# Altium footprint library SeniorDesign.PcbLib: 6 footprints
Each footprint in its own frame and in the unit in brackets; x right, y up, seen from the top. Pads: shape width x height; smd on the part's side, far side on the other; paste and mask are expansions set on the pad; w line width, h text height; cw(c..) or ccw(c..) is an arc to the next point about the centre after c.
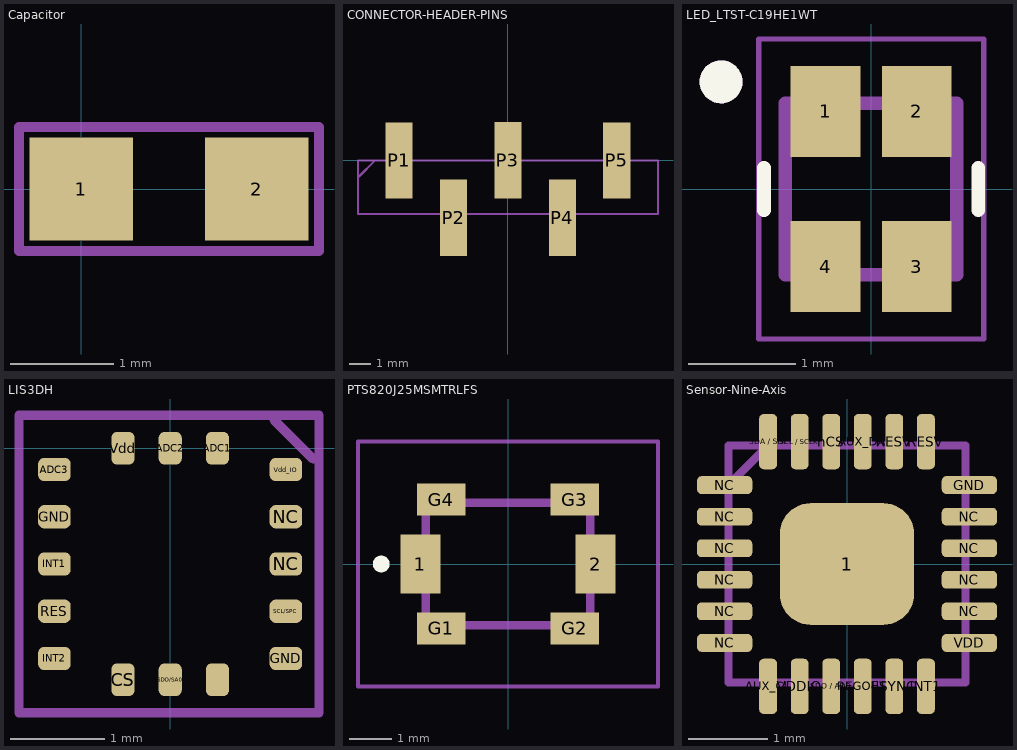
[diagram p0: the footprints below, top view; thin cyan lines are the x and y axes]

## Capacitor [mm]
pads (2):
  rect 1x1 smd: 1(0,0) 2(1.7,0)
Top Assembly:
  lines w0.1: -0.6,-0.6 2.3,-0.6 2.3,0.6 -0.6,0.6 -0.6,-0.6
  text ".Designator" at -0.5,-0.306 h0.5
3D body: height 1, standoff 0, extent -0.618,-0.6 2.3,0.6

## CONNECTOR-HEADER-PINS [mm]
pads (5):
  rect 1.27x3.56 smd: P1(-5.08,0) P2(-2.54,-2.67) P3(0,0) P4(2.54,-2.67) P5(5.08,0)
Top Assembly:
  lines w0.1: -6.95,-0.75 -6.2,0 ; -7,-2.5 7,-2.5 7,0 -7,0 -7,-2.5
  text ".Designator" at -6.5,-1.718 h1.5
3D body: height 5.84, standoff 0, extent -7,-2.5 7,0.1

## LED_LTST-C19HE1WT [mm]
pads (4):
  rect 0.65x0.85 smd: 1(-0.425,0.725) 2(0.425,0.725) 3(0.425,-0.725) 4(-0.425,-0.725)
Top Overlay:
  circle w0.2: c-1.4,1 r0.1
  lines w0.127: -1,-0.2 -1,0.2 ; 1,-0.2 1,0.2
3D Bodies:
  circle w0.2: c-1.4,1 r0.1
  lines w0.127: -0.8,-0.8 0.8,-0.8 0.8,0.8 -0.8,0.8 -0.8,-0.8
Mechanical 15:
  lines w0.05: -1.05,-1.4 1.05,-1.4 1.05,1.4 -1.05,1.4 -1.05,-1.4

## LIS3DH [mm] "Accelerometer"
pads (16):
  rrect50% 0.245x0.345 smd: ADC1(0.5,0) ADC2(0,0) CS(-0.5,-2.45) SDA/SDI/SDO(0.5,-2.45) SDO/SA0(0,-2.45) Vdd(-0.5,0)
  rrect50% 0.345x0.245 smd: ADC3(-1.225,-0.225) GND(-1.225,-0.725) GND(1.225,-2.225) INT1(-1.225,-1.225) INT2(-1.225,-2.225) NC(1.225,-1.225) NC(1.225,-0.725) RES(-1.225,-1.725) SCL/SPC(1.225,-1.725) Vdd_IO(1.225,-0.225)
Top Assembly:
  lines w0.1: 1.1,0.3 1.513,-0.113 ; -1.6,-2.8 1.575,-2.8 1.575,0.35 -1.6,0.35 -1.6,-2.8
  text ".Designator" at -1.25,-1.156 h0.5
3D body: height 1, standoff 0, extent -1.6,-2.75 1.5,0.35

## PTS820J25MSMTRLFS [mm]
pads (6):
  rect 0.95x1.4 smd: 1(-2.075,0) 2(2.075,0)
  rect 1.15x0.75 smd: G1(-1.575,-1.525) G2(1.575,-1.525) G3(1.575,1.525) G4(-1.575,1.525)
Top Overlay:
  lines w0.2: -3,-0.1 cw(c-3,0) -3,0.1 cw(c-3,0) -3,-0.1
3D Bodies:
  lines w0.2: -1.95,-1.45 1.95,-1.45 1.95,1.45 -1.95,1.45 -1.95,-1.45
Mechanical 15:
  lines w0.1: -3.55,-2.9 3.55,-2.9 3.55,2.9 -3.55,2.9 -3.55,-2.9
3D body "PTS820J25MSMTRLFS.stp": height 1.6, standoff 0, extent -2.455,-1.825 2.455,1.825

## Sensor-Nine-Axis [mm]
pads (25):
  rrect50% 1.7x1.54 smd: 1(0,0)
  rrect50% 0.225x0.7 smd: AUX_CL(-1,-1.55) AUX_DA(0.2,1.55) FSYNC(0.6,-1.55) INT1(1,-1.55) nCS(-0.2,1.55) REGOUT(0.2,-1.55) RESV(0.6,1.55) RESV(1,1.55) "SCL / SCLK"(-0.6,1.55) "SDA / SDI"(-1,1.55) "SDO / AD0"(-0.2,-1.55) VDDIO(-0.6,-1.55)
  rrect50% 0.7x0.225 smd: GND(1.55,1) NC(-1.55,-1) NC(-1.55,-0.6) NC(-1.55,-0.2) NC(-1.55,0.2) NC(-1.55,0.6) NC(-1.55,1) NC(1.55,-0.6) NC(1.55,-0.2) NC(1.55,0.2) NC(1.55,0.6) VDD(1.55,-1)
Top Assembly:
  lines w0.1: -1.5,1 -1,1.5 ; -1.5,-1.5 1.5,-1.5 1.5,1.5 -1.5,1.5 -1.5,-1.5
  text ".Designator" at -0.9,-0.267 h0.4
3D body: height 1, standoff 0, extent -1.5,-1.5 1.5,1.5